# EAGLE library part S-DIP-4 (library elpp-tht-v1.2)
DIP Switch, 4 positions
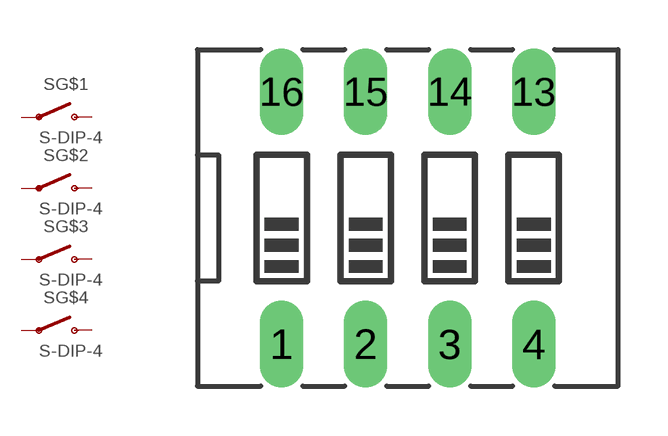
[diagram p47: symbol with the pads of ELPP-S-DIP4; footprint ELPP-S-DIP4]

Designator prefix S; gates G$1=SWITCH G$2=SWITCH G$3=SWITCH G$4=SWITCH

## S-DIP-4 (FARNELL: 1123938; RS: 6394727)  [ELPP-S-DIP4]
1  G$1:O  pas
2  G$2:O  pas
3  G$3:O  pas
4  G$4:O  pas
13  G$4:P  pas
14  G$3:P  pas
15  G$2:P  pas
16  G$1:P  pas

## Footprint ELPP-S-DIP4 (pad centres in mm)
DIP SWITCH, 4 positions
drill 0.8 long: 1 -3.81,-3.81; 2 -1.27,-3.81; 3 1.27,-3.81; 4 3.81,-3.81; 13 3.81,3.81; 14 1.27,3.81; 15 -1.27,3.81; 16 -3.81,3.81